# Altium footprint library 贴片二极管.PcbLib: 13 footprints
Each footprint in its own frame and in the unit in brackets; x right, y up, seen from the top. Pads: shape width x height; smd on the part's side, far side on the other; paste and mask are expansions set on the pad; w line width, h text height; cw(c..) or ccw(c..) is an arc to the next point about the centre after c.
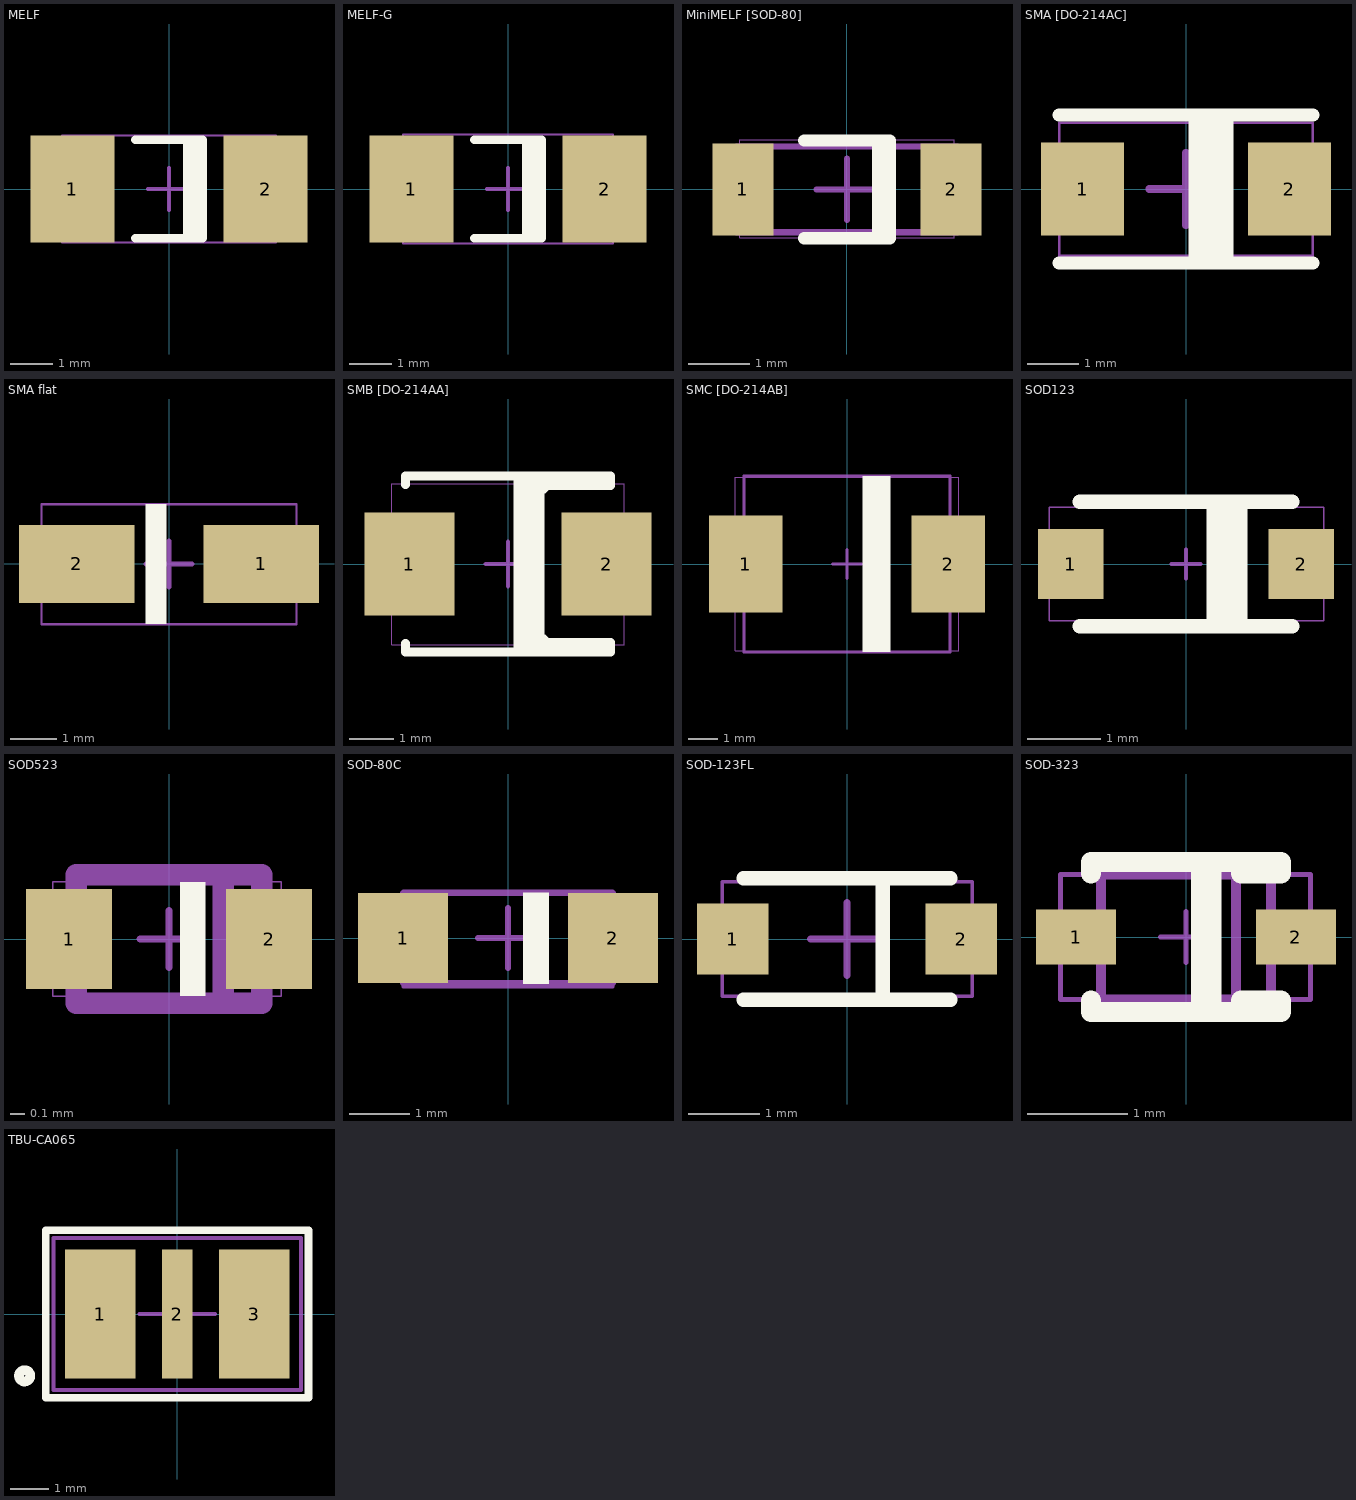
[diagram p0: the footprints below, top view; thin cyan lines are the x and y axes]

## MELF [mm] "胶封型"
height 2.54
pads (2):
  rect 2x2.54 smd: 1(-2.3,0) 2(2.3,0)
Top Overlay:
  rectangle: 0.33,-1.17 0.8,1.17
  lines w0.2: -0.8,-1.17 0.8,-1.17 0.8,1.17 -0.8,1.17
Mechanical 13:
  lines w0.05: -2.54,-1.27 2.54,-1.27 2.54,1.27 -2.54,1.27 -2.54,-1.27
Mechanical 15:
  lines w0.1: -0.5,0 0.5,0 ; 0,-0.5 0,0.5
3D body: height 2.54, standoff 0, extent -2.54,-1.27 2.54,1.27

## MELF-G [mm] "玻璃封装型"
height 2.54
pads (2):
  rect 2x2.54 smd: 1(-2.3,0) 2(2.3,0)
Top Overlay:
  rectangle: 0.33,-1.17 0.8,1.17
  lines w0.2: -0.8,-1.17 0.8,-1.17 0.8,1.17 -0.8,1.17
Mechanical 13:
  lines w0.05: -2.5,-1.3 -2.5,1.3 2.5,1.3 2.5,-1.3 -2.5,-1.3
Mechanical 15:
  lines w0.1: -0.5,0 0.5,0 ; 0,-0.5 0,0.5
3D body: height 2.57, standoff -0.03, extent -2.5,-1.3 2.5,1.3

## MiniMELF [SOD-80] [mm] "Metal Electrode Face (MELF) Diode; Body 3.5 x 1.7 mm (LxDia)"
height 1.7
pads (2):
  rect 1x1.5 smd: 1(-1.7,0) 2(1.7,0)
Top Overlay:
  lines w0.2: -0.7,-0.8 0.7,-0.8 0.7,0.8 -0.7,0.8 ; 0.51,-0.8 0.51,0.8
Mechanical 13:
  lines w0.02: -1.75,-0.787 -1.75,0.813 1.75,0.813 1.75,-0.787 -1.75,-0.787
Mechanical 15:
  lines w0.1: -1.3,-0.7 -1.3,0.7 ; -0.5,0 0.5,0 ; 0,-0.5 0,0.5 ; 1.3,-0.7 1.3,0.7 ; -1.8,-0.7 1.8,-0.7 1.8,0.7 -1.8,0.7 -1.8,-0.7
3D body: height 1.6, standoff 0, extent -1.75,-0.787 1.41,0.813

## SMA [DO-214AC] [mm]
height 2.62
pads (2):
  rect 1.6x1.8 smd: 1(-2,0) 2(2,0)
Top Overlay:
  rectangle: 0.051,-1.45 0.914,1.45
  lines w0.254: -2.45,-1.432 2.45,-1.432 ; -2.45,1.432 2.45,1.432
Mechanical 13:
  lines w0.05: -2.45,-1.295 2.45,-1.295 2.45,1.28 -2.45,1.28 -2.45,-1.295
Mechanical 15:
  lines w0.15: -0.711,0 0.7,0 ; 0,-0.7 0,0.7
3D body: height 2.39, standoff 0.1, extent -2.45,-1.295 2.45,1.28

## SMA flat [mm] "SMA FLAT 二极管"
height 1
pads (2):
  rect 2.5x1.7 smd: 1(2,0) 2(-2,0)
Top Overlay:
  region: -0.051,1.305 -0.508,1.305 -0.508,-1.305 -0.051,-1.305
Mechanical 13:
  lines w0.05: -2.762,-1.305 -2.762,1.295 2.762,1.295 2.762,-1.305 -2.762,-1.305
Mechanical 15:
  lines w0.1: -0.5,0 0.5,0 ; 0,-0.5 0,0.5
3D body: height 1, standoff -0.01, extent -2.762,-1.305 2.762,1.295

## SMB [DO-214AA] [mm]
height 2.413
pads (2):
  rect 2x2.3 smd: 1(-2.2,0) 2(2.2,0)
Top Overlay:
  rectangle: 0.127,-1.651 0.813,1.651
  rectangle: 0.127,-1.968 2.286,-1.651
  rectangle: 0.127,1.651 2.286,1.968
  lines w0.2: -2.286,-1.778 -2.286,-1.968 2.286,-1.968 2.286,-1.753 0.864,-1.753 0.762,-1.651 ; -2.286,1.778 -2.286,1.968 2.286,1.968 2.286,1.753 0.864,1.753 0.762,1.651
Mechanical 13:
  lines w0.02: -2.6,-1.803 2.6,-1.803 2.6,1.797 -2.6,1.797 -2.6,-1.803
Mechanical 15:
  lines w0.1: -0.5,0 0,0 ; 0,-0.5 0,0 ; 0,0.5 0,0 ; 0.508,0 0,0
3D body: height 2.4, standoff 0.1, extent -2.6,-1.803 2.6,1.797

## SMC [DO-214AB] [mm]
height 2.5
pads (2):
  rect 2.5x3.3 smd: 1(-3.45,0) 2(3.45,0)
Top Overlay:
  rectangle: 0.533,-2.997 1.473,2.997
Mechanical 13:
  lines w0.02: -3.8,-2.949 -3.8,2.951 3.8,2.951 3.8,-2.949 -3.8,-2.949
Mechanical 15:
  lines w0.1: -0.5,0 0,0 ; 0,-0.5 0,0 ; 0,0.5 0,0 ; 0.508,0 0,0 ; -3.5,-3 -3.5,3 3.5,3 3.5,-3 -3.5,-3
3D body: height 2.3, standoff 0, extent -3.8,-2.949 3.8,2.951

## SOD123 [mm] "SOD-123; 2 Leads; Body 2.7 x 1.6 mm, (LxW)"
height 1.35
pads (2):
  rect 0.9x0.95 smd: 1(-1.575,0) 2(1.575,0)
Top Overlay:
  rectangle: 0.279,-0.85 0.838,0.85
  lines w0.2: -1.45,-0.85 1.45,-0.85 ; -1.45,0.85 1.45,0.85 ; 0.5,-0.85 0.5,0.85
Mechanical 13:
  lines w0.02: -1.87,-0.775 1.88,-0.775 1.88,0.775 -1.87,0.775 -1.87,-0.775
Mechanical 15:
  lines w0.05: -0.203,0 0.2,0 ; 0,-0.2 0,0.2
3D body: height 1.15, standoff 0, extent -1.87,-0.775 1.88,0.775

## SOD523 [mm] "small packge diode"
height 0.7
pads (2):
  rect 0.6x0.7 smd: 1(-0.7,0) 2(0.7,0)
Top Overlay:
  rectangle: 0.076,-0.4 0.254,0.4
Mechanical 13:
  lines w0.01: -0.813,-0.4 0.787,-0.4 0.787,0.4 -0.813,0.4 -0.813,-0.4
Mechanical 15:
  lines w0.05: -0.203,0 0.2,0 ; 0,-0.2 0,0.2
  lines w0.15: 0.381,-0.45 0.381,0.45 ; -0.65,-0.45 -0.65,0.45 0.65,0.45 0.65,-0.45 -0.65,-0.45
3D body: height 0.6, standoff 0, extent -0.813,-0.4 0.787,0.4

## SOD-80C [mm] "贴片玻璃封装"
height 1.6
pads (2):
  rect 1.5x1.5 smd: 1(-1.75,0) 2(1.75,0)
Top Overlay:
  rectangle: 0.254,-0.762 0.686,0.762
Mechanical 13:
  lines w0.05: -1.75,-0.813 1.75,-0.813 1.75,0.787 -1.75,0.787 -1.75,-0.813
Mechanical 15:
  lines w0.1: -1.4,-0.75 -1.4,0.75 ; -0.5,0 0.5,0 ; 0,-0.5 0,0.5 ; 1.4,-0.75 1.4,0.75 ; -1.75,-0.75 -1.75,0.75 1.75,0.75 1.75,-0.75 -1.75,-0.75
3D body: height 1.6, standoff 0, extent -1.75,-0.813 1.75,0.787

## SOD-123FL [mm] "SOD-123; 2 Leads; Body 2.7 x 1.6 mm, (LxW)"
height 1.35
pads (2):
  rect 1x1 smd: 1(-1.6,0) 2(1.6,0)
Top Overlay:
  lines w0.2: -1.45,-0.85 1.45,-0.85 ; -1.45,0.85 1.45,0.85 ; 0.5,-0.85 0.5,0.85
Mechanical 13:
  lines w0.05: -1.747,-0.8 1.753,-0.8 1.753,0.8 -1.747,0.8 -1.747,-0.8
Mechanical 15:
  lines w0.102: -0.508,0 0,0 ; 0,-0.508 0,0 ; 0,0.508 0,0 ; 0.508,0 0,0
3D body: height 1.11, standoff 0, extent -1.747,-0.8 1.753,0.8

## SOD-323 [mm] "SOD-323/SC-76; 2 Leads; Body 1.7 x 1.3 mm, (LxW)"
height 1.1
pads (2):
  rect 0.8x0.55 smd: 1(-1.1,0) 2(1.1,0)
Top Overlay:
  rectangle: 0.051,-0.787 0.356,0.75
  lines w0.2: -0.95,-0.635 -0.95,-0.75 0.95,-0.75 0.95,-0.635 0.55,-0.635 0.55,-0.75 ; -0.95,0.635 -0.95,0.75 0.95,0.75 0.95,0.635 0.55,0.635 0.55,0.75
Mechanical 13:
  lines w0.05: -1.255,-0.625 1.245,-0.625 1.245,0.625 -1.255,0.625 -1.255,-0.625
Mechanical 15:
  lines w0.05: -0.254,0 0.254,0 ; 0,-0.254 0,0.254
  lines w0.1: 0.5,-0.625 0.5,0.625 ; -0.85,-0.625 -0.85,0.625 0.85,0.625 0.85,-0.625 -0.85,-0.625
3D body: height 1.1, standoff 0, extent -1.255,-0.625 1.245,0.625

## TBU-CA065 [mm] "RS485 TVS"
height 0.85
pads (3):
  rect 1.85x3.4 smd: 1(-2.025,0) 3(2.025,0)
  rect 0.8x3.4 smd: 2(0,0)
Top Overlay:
  circle w0.254: c-4.009,-1.626 r0.148
  lines w0.2: -3.45,-2.2 3.45,-2.2 3.45,2.2 -3.45,2.2 -3.45,-2.2
Mechanical 13:
  lines w0.05: -3.259,-2.005 -3.259,2.005 3.251,2.005 3.251,-2.005 -3.259,-2.005
Mechanical 15:
  lines w0.1: -1,0 1,0 ; 0,-1 0,1 ; -3.25,-2 -3.25,2 3.25,2 3.25,-2 -3.25,-2
3D body: height 0.9, standoff 0.05, extent -3.259,-2.005 3.251,2.005